# EAGLE library part RJLBC-060 (library Taimag)
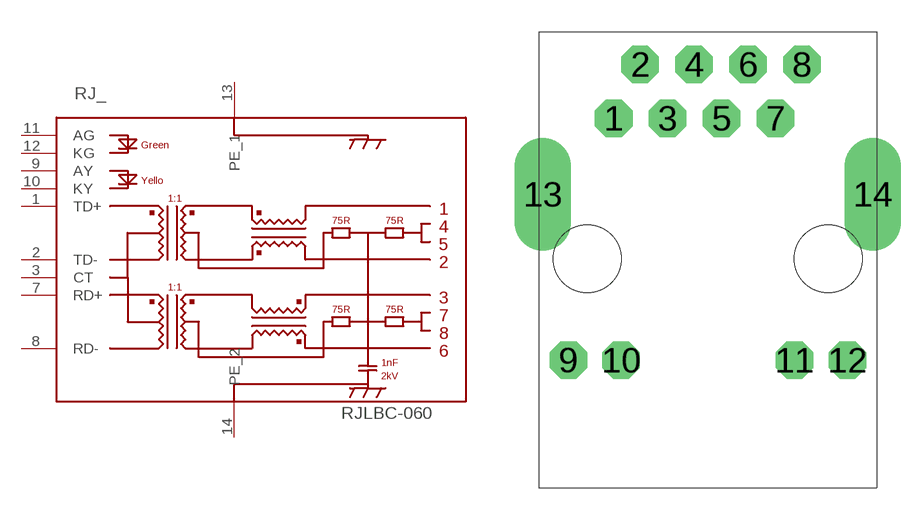
[diagram p3: symbol with the pads of RJLBC-06; footprint RJLBC-06]

Designator prefix RJ_

## RJLBC-060  [RJLBC-06]
1  TD+
2  TD-
3  CT
7  RD+
8  RD-
9  AY
10  KY
11  AG
12  KG
13  PE_1  pwr
14  PE_2  pwr

## Footprint RJLBC-06 (pad centres in mm)
drill 1.016 pad 1.778 octagon: 1 -5.085,6.358; 2 -3.835,8.908; 3 -2.535,6.358; 4 -1.285,8.908; 5 0.015,6.358; 6 1.265,8.908; 7 2.565,6.358; 8 3.815,8.908; 9 -7.235,-5.092; 10 -4.735,-5.092; 11 3.465,-5.092; 12 5.965,-5.092
drill 1.778 pad 1.905 long: 13 -8.435,2.758; 14 7.165,2.758
hole 3.2 at 5.065,-0.292
hole 3.2 at -6.335,-0.292